# EAGLE library part HCPL-900J (library 1A-meinLib)
High Speed Digital Isolator, Quad Channel, 100MHz, 6ns delay skew, Agilent / AVAGO
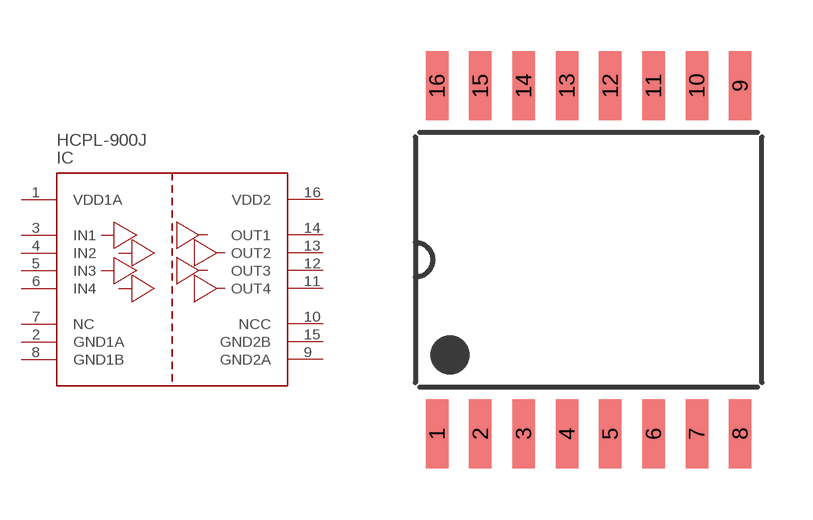
[diagram p75: symbol with the pads of SOIC_16; footprint SOIC_16]

Designator prefix IC

## HCPL-900J  [SOIC_16]
1  VDD1A  pas
2  GND1A  pas
3  IN1  in
4  IN2  in
5  IN3  in
6  IN4  in
7  NC  pas
8  GND1B  pas
9  GND2A  pas
10  NCC  pas
11  OUT4  out
12  OUT3  out
13  OUT2  out
14  OUT1  out
15  GND2B  pas
16  VDD2  pas

## Footprint SOIC_16 (pad centres in mm)
smd 0.66 x 2.032: 1 -4.445,-5.105; 2 -3.175,-5.105; 3 -1.905,-5.105; 4 -0.635,-5.105; 5 0.635,-5.105; 6 1.905,-5.105; 7 3.175,-5.105; 8 4.445,-5.105; 9 4.445,5.105; 10 3.175,5.105; 11 1.905,5.105; 12 0.635,5.105; 13 -0.635,5.105; 14 -1.905,5.105; 15 -3.175,5.105; 16 -4.445,5.105